# Altium footprint library yusend_power.PCBLIB: 87 footprints (part 6 of 6)
Each footprint in its own frame and in the unit in brackets; x right, y up, seen from the top. Pads: shape width x height; smd on the part's side, far side on the other; paste and mask are expansions set on the pad; w line width, h text height; cw(c..) or ccw(c..) is an arc to the next point about the centre after c.
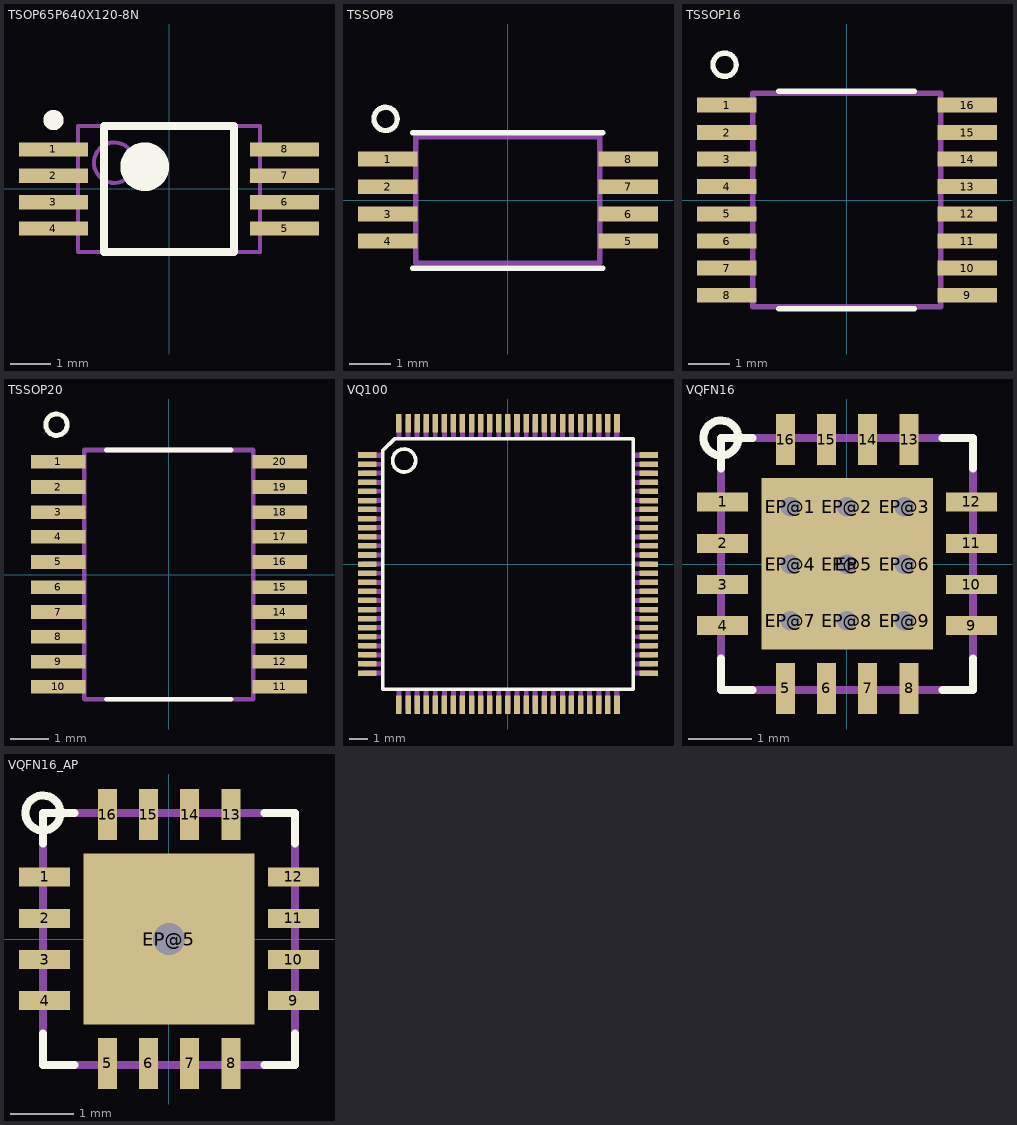
[diagram p5: the footprints below, top view; thin cyan lines are the x and y axes]

## TSOP65P640X120-8N [mm] "TSOP, 8-Leads, Body 3.00x4.40mm, Pitch 0.65mm, IPC Medium Density"
height 1.2
pads (8):
  rect 1.7x0.35 smd: 1(-2.85,0.975) 2(-2.85,0.325) 3(-2.85,-0.325) 4(-2.85,-0.975) 5(2.85,-0.975) 6(2.85,-0.325) 7(2.85,0.325) 8(2.85,0.975)
Top Overlay:
  circle w0.6: c-0.6,0.55 r0.3
  circle w0.25: c-2.85,1.7 r0.125
  lines w0.2: -1.6,-1.55 1.6,-1.55 1.6,1.55 -1.6,1.55 -1.6,-1.55
Mechanical 13:
  circle w0.1: c-1.35,0.65 r0.5
  lines w0.1: -2.25,-1.55 2.25,-1.55 2.25,1.55 -2.25,1.55 -2.25,-1.55
3D body: height 1.2, standoff 0.09, extent -2.25,-1.55 2.25,1.55

## TSSOP8 [mil]
pads (8):
  rect 56x14 smd: 1(-113.19,39) 2(-113.19,13) 3(-113.19,-12.8) 4(-113.19,-38.39) 5(114,-38.39) 6(114,-12.8) 7(114,13) 8(114,39)
Top Overlay:
  circle w5: c-115.16,77 r11
  lines w5: -89.57,-63.98 90,-63.98 ; -89.57,64 90,64
Mechanical 16:
  lines w5: -86.61,-59.06 87,-59.06 87,60 -86.61,60 -86.61,-59.06

## TSSOP16 [mil]
pads (16):
  rect 56x14 smd: 1(-113.19,90) 2(-113.19,64) 3(-113.19,39) 4(-113.19,13) 5(-113.19,-12.8) 6(-113.19,-38.39) 7(-113.19,-63.98) 8(-113.19,-89.57) 9(114,-89.57) 10(114,-63.98) 11(114,-38.39) 12(114,-12.8) 13(114,13) 14(114,39) 15(114,64) 16(114,90)
Top Overlay:
  circle w5: c-115.16,128 r11
  lines w5: -63.98,-102.36 64,-102.36 ; -63.98,103 64,103
Mechanical 16:
  lines w5: -88.58,-100.39 89,-100.39 89,101 -88.58,101 -88.58,-100.39

## TSSOP20 [mil]
pads (20):
  rect 56x14 smd: 1(-113.19,116) 2(-113.19,90) 3(-113.19,64) 4(-113.19,39) 5(-113.19,13) 6(-113.19,-12.8) 7(-113.19,-38.39) 8(-113.19,-63.98) 9(-113.19,-89.57) 10(-113.19,-115.16) 11(114,-115.16) 12(114,-89.57) 13(114,-63.98) 14(114,-38.39) 15(114,-12.8) 16(114,13) 17(114,39) 18(114,64) 19(114,90) 20(114,116)
Top Overlay:
  circle w5: c-115.16,154 r11
  lines w5: -63.98,-127.95 64,-127.95 ; -63.98,128 64,128
Mechanical 16:
  lines w5: -86.61,-127.95 87,-127.95 87,128 -86.61,128 -86.61,-127.95

## VQ100 [mil]
pads (100):
  rect 40x12 smd: 1(-305.12,237) 2(-305.12,217) 3(-305.12,197) 4(-305.12,178) 5(-305.12,158) 6(-305.12,138) 7(-305.12,119) 8(-305.12,99) 9(-305.12,79) 10(-305.12,60) 11(-305.12,40) 12(-305.12,20) 13(-305.12,0) 14(-305.12,-19.68) 15(-305.12,-39.37) 16(-305.12,-59.06) 17(-305.12,-78.74) 18(-305.12,-98.43) 19(-305.12,-118.11) 20(-305.12,-137.8) 21(-305.12,-157.48) 22(-305.12,-177.17) 23(-305.12,-196.85) 24(-305.12,-216.54) 25(-305.12,-236.22) 51(306,-236.22) 52(306,-216.54) 53(306,-196.85) 54(306,-177.17) 55(306,-157.48) 56(306,-137.8) 57(306,-118.11) 58(306,-98.43) 59(306,-78.74) 60(306,-59.06) 61(306,-39.37) 62(306,-19.68) 63(306,0) 64(306,20) 65(306,40) 66(306,60) 67(306,79) 68(306,99) 69(306,119) 70(306,138) 71(306,158) 72(306,178) 73(306,197) 74(306,217) 75(306,237)
  rect 12x40 smd: 26(-236.22,-305.12) 27(-216.54,-305.12) 28(-196.85,-305.12) 29(-177.17,-305.12) 30(-157.48,-305.12) 31(-137.8,-305.12) 32(-118.11,-305.12) 33(-98.43,-305.12) 34(-78.74,-305.12) 35(-59.06,-305.12) 36(-39.37,-305.12) 37(-19.68,-305.12) 38(0,-305.12) 39(20,-305.12) 40(40,-305.12) 41(60,-305.12) 42(79,-305.12) 43(99,-305.12) 44(119,-305.12) 45(138,-305.12) 46(158,-305.12) 47(178,-305.12) 48(197,-305.12) 49(217,-305.12) 50(237,-305.12) 76(237,306) 77(217,306) 78(197,306) 79(178,306) 80(158,306) 81(138,306) 82(119,306) 83(99,306) 84(79,306) 85(60,306) 86(40,306) 87(20,306) 88(0,306) 89(-19.68,306) 90(-39.37,306) 91(-59.06,306) 92(-78.74,306) 93(-98.43,306) 94(-118.11,306) 95(-137.8,306) 96(-157.48,306) 97(-177.17,306) 98(-196.85,306) 99(-216.54,306) 100(-236.22,306)
Top Overlay:
  circle w8: c-225,225 r25
  lines w8: -271.59,-271.59 -271.59,247 -246.06,272 272,272 272,-271.59 -271.59,-271.59
Mechanical 16:
  rectangle: -241.54,276 -230.91,315
  rectangle: -221.85,276 -211.22,315
  rectangle: -202.17,276 -191.54,315
  rectangle: -182.48,276 -171.85,315
  rectangle: -162.8,276 -152.17,315
  rectangle: -143.11,276 -132.48,315
  rectangle: -123.43,276 -112.8,315
  rectangle: -103.74,276 -93.11,315
  rectangle: -84.06,276 -73.43,315
  rectangle: -64.37,276 -53.74,315
  rectangle: -44.69,276 -34.06,315
  rectangle: -25,276 -14.37,315
  rectangle: -5.32,276 6,315
  rectangle: 15,276 25,315
  rectangle: 35,276 45,315
  rectangle: 54,276 65,315
  rectangle: 74,276 85,315
  rectangle: 94,276 104,315
  rectangle: 113,276 124,315
  rectangle: 133,276 144,315
  rectangle: 153,276 163,315
  rectangle: 172,276 183,315
  rectangle: 192,276 203,315
  rectangle: 212,276 222,315
  rectangle: 231,276 242,315
  rectangle: 276,231 315,242
  rectangle: 276,212 315,222
  rectangle: 276,192 315,203
  rectangle: 276,172 315,183
  rectangle: 276,153 315,163
  rectangle: 276,133 315,144
  rectangle: 276,113 315,124
  rectangle: 276,94 315,104
  rectangle: 276,74 315,85
  rectangle: 276,54 315,65
  rectangle: 276,35 315,45
  rectangle: 276,15 315,25
  rectangle: 276,-5.32 315,6
  rectangle: 276,-25 315,-14.37
  rectangle: 276,-44.69 315,-34.06
  rectangle: 276,-64.37 315,-53.74
  rectangle: 276,-84.06 315,-73.43
  rectangle: 276,-103.74 315,-93.11
  rectangle: 276,-123.43 315,-112.8
  rectangle: 276,-143.11 315,-132.48
  rectangle: 276,-162.8 315,-152.17
  rectangle: 276,-182.48 315,-171.85
  rectangle: 276,-202.17 315,-191.54
  rectangle: 276,-221.85 315,-211.22
  rectangle: 276,-241.54 315,-230.91
  rectangle: 231,-314.96 242,-275.59
  rectangle: 212,-314.96 222,-275.59
  rectangle: 192,-314.96 203,-275.59
  rectangle: 172,-314.96 183,-275.59
  rectangle: 153,-314.96 163,-275.59
  rectangle: 133,-314.96 144,-275.59
  rectangle: 113,-314.96 124,-275.59
  rectangle: 94,-314.96 104,-275.59
  rectangle: 74,-314.96 85,-275.59
  rectangle: 54,-314.96 65,-275.59
  rectangle: 35,-314.96 45,-275.59
  rectangle: 15,-314.96 25,-275.59
  rectangle: -5.32,-314.96 6,-275.59
  rectangle: -25,-314.96 -14.37,-275.59
  rectangle: -44.69,-314.96 -34.06,-275.59
  rectangle: -64.37,-314.96 -53.74,-275.59
  rectangle: -84.06,-314.96 -73.43,-275.59
  rectangle: -103.74,-314.96 -93.11,-275.59
  rectangle: -123.43,-314.96 -112.8,-275.59
  rectangle: -143.11,-314.96 -132.48,-275.59
  rectangle: -162.8,-314.96 -152.17,-275.59
  rectangle: -182.48,-314.96 -171.85,-275.59
  rectangle: -202.17,-314.96 -191.54,-275.59
  rectangle: -221.85,-314.96 -211.22,-275.59
  rectangle: -241.54,-314.96 -230.91,-275.59
  rectangle: -314.96,-241.54 -275.59,-230.91
  rectangle: -314.96,-221.85 -275.59,-211.22
  rectangle: -314.96,-202.17 -275.59,-191.54
  rectangle: -314.96,-182.48 -275.59,-171.85
  rectangle: -314.96,-162.8 -275.59,-152.17
  rectangle: -314.96,-143.11 -275.59,-132.48
  rectangle: -314.96,-123.43 -275.59,-112.8
  rectangle: -314.96,-103.74 -275.59,-93.11
  rectangle: -314.96,-84.06 -275.59,-73.43
  rectangle: -314.96,-64.37 -275.59,-53.74
  rectangle: -314.96,-44.69 -275.59,-34.06
  rectangle: -314.96,-25 -275.59,-14.37
  rectangle: -314.96,-5.32 -275.59,6
  rectangle: -314.96,15 -275.59,25
  rectangle: -314.96,35 -275.59,45
  rectangle: -314.96,54 -275.59,65
  rectangle: -314.96,74 -275.59,85
  rectangle: -314.96,94 -275.59,104
  rectangle: -314.96,113 -275.59,124
  rectangle: -314.96,133 -275.59,144
  rectangle: -314.96,153 -275.59,163
  rectangle: -314.96,172 -275.59,183
  rectangle: -314.96,192 -275.59,203
  rectangle: -314.96,212 -275.59,222
  rectangle: -314.96,231 -275.59,242

## VQFN16 [mil]
pads (26):
  rect 32x12 smd: 1(-77.76,39) 2(-77.76,13) 3(-77.76,-12.8) 4(-77.76,-38.39) 9(78,-38.39) 10(78,-12.8) 11(78,13) 12(78,39)
  rect 12x32 smd: 5(-38.39,-77.76) 6(-12.8,-77.76) 7(13,-77.76) 8(39,-77.76) 13(39,78) 14(13,78) 15(-12.8,78) 16(-38.39,78)
  rect 107x107 smd: EP(0,0)
  rect 36x36 hole 12: EP@1(-35.43,36) EP@2(0,36) EP@3(36,36) EP@4(-35.43,0) EP@5(0,0) EP@6(36,0) EP@7(-35.43,-35.43) EP@8(0,-35.43) EP@9(36,-35.43)
Top Overlay:
  circle w5: c-78.74,79 r11
  lines w5: -78.74,-59.06 -78.74,-78.74 -59.06,-78.74 ; -78.74,60 -78.74,79 -59.06,79 ; 60,-78.74 79,-78.74 79,-59.06 ; 60,79 79,79 79,60
Top Paste:
  rectangle: 6,-49.21 50,-5.91
  rectangle: -49.21,-49.21 -5.91,-5.91
  rectangle: 6,6 50,50
  rectangle: -49.21,6 -5.91,50
Top Solder:
  rectangle: 4,-51.18 52,-3.94
  rectangle: -51.18,-51.18 -3.94,-3.94
  rectangle: 4,4 52,52
  rectangle: -51.18,4 -3.94,52
Mechanical 16:
  lines w5: -78.74,-78.74 -78.74,79 79,79 79,-78.74 -78.74,-78.74

## VQFN16_AP [mil]
pads (17):
  rect 32x12 smd: 1(-77.76,39) 2(-77.76,13) 3(-77.76,-12.8) 4(-77.76,-38.39) 9(78,-38.39) 10(78,-12.8) 11(78,13) 12(78,39)
  rect 12x32 smd: 5(-38.39,-77.76) 6(-12.8,-77.76) 7(13,-77.76) 8(39,-77.76) 13(39,78) 14(13,78) 15(-12.8,78) 16(-38.39,78)
  rect 107x107 hole 20: EP@5(0,0)
Top Overlay:
  circle w5: c-78.74,79 r11
  lines w5: -78.74,-59.06 -78.74,-78.74 -59.06,-78.74 ; -78.74,60 -78.74,79 -59.06,79 ; 60,-78.74 79,-78.74 79,-59.06 ; 60,79 79,79 79,60
Top Paste:
  rectangle: 6,-49.21 50,-5.91
  rectangle: -49.21,-49.21 -5.91,-5.91
  rectangle: 6,6 50,50
  rectangle: -49.21,6 -5.91,50
Top Solder:
  rectangle: 4,-51.18 52,-3.94
  rectangle: -51.18,-51.18 -3.94,-3.94
  rectangle: 4,4 52,52
  rectangle: -51.18,4 -3.94,52
Mechanical 16:
  lines w5: -78.74,-78.74 -78.74,79 79,79 79,-78.74 -78.74,-78.74